# Altium footprint library PPs.PcbLib: 32 footprints (part 1 of 2)
Each footprint in its own frame and in the unit in brackets; x right, y up, seen from the top. Pads: shape width x height; smd on the part's side, far side on the other; paste and mask are expansions set on the pad; w line width, h text height; cw(c..) or ccw(c..) is an arc to the next point about the centre after c.
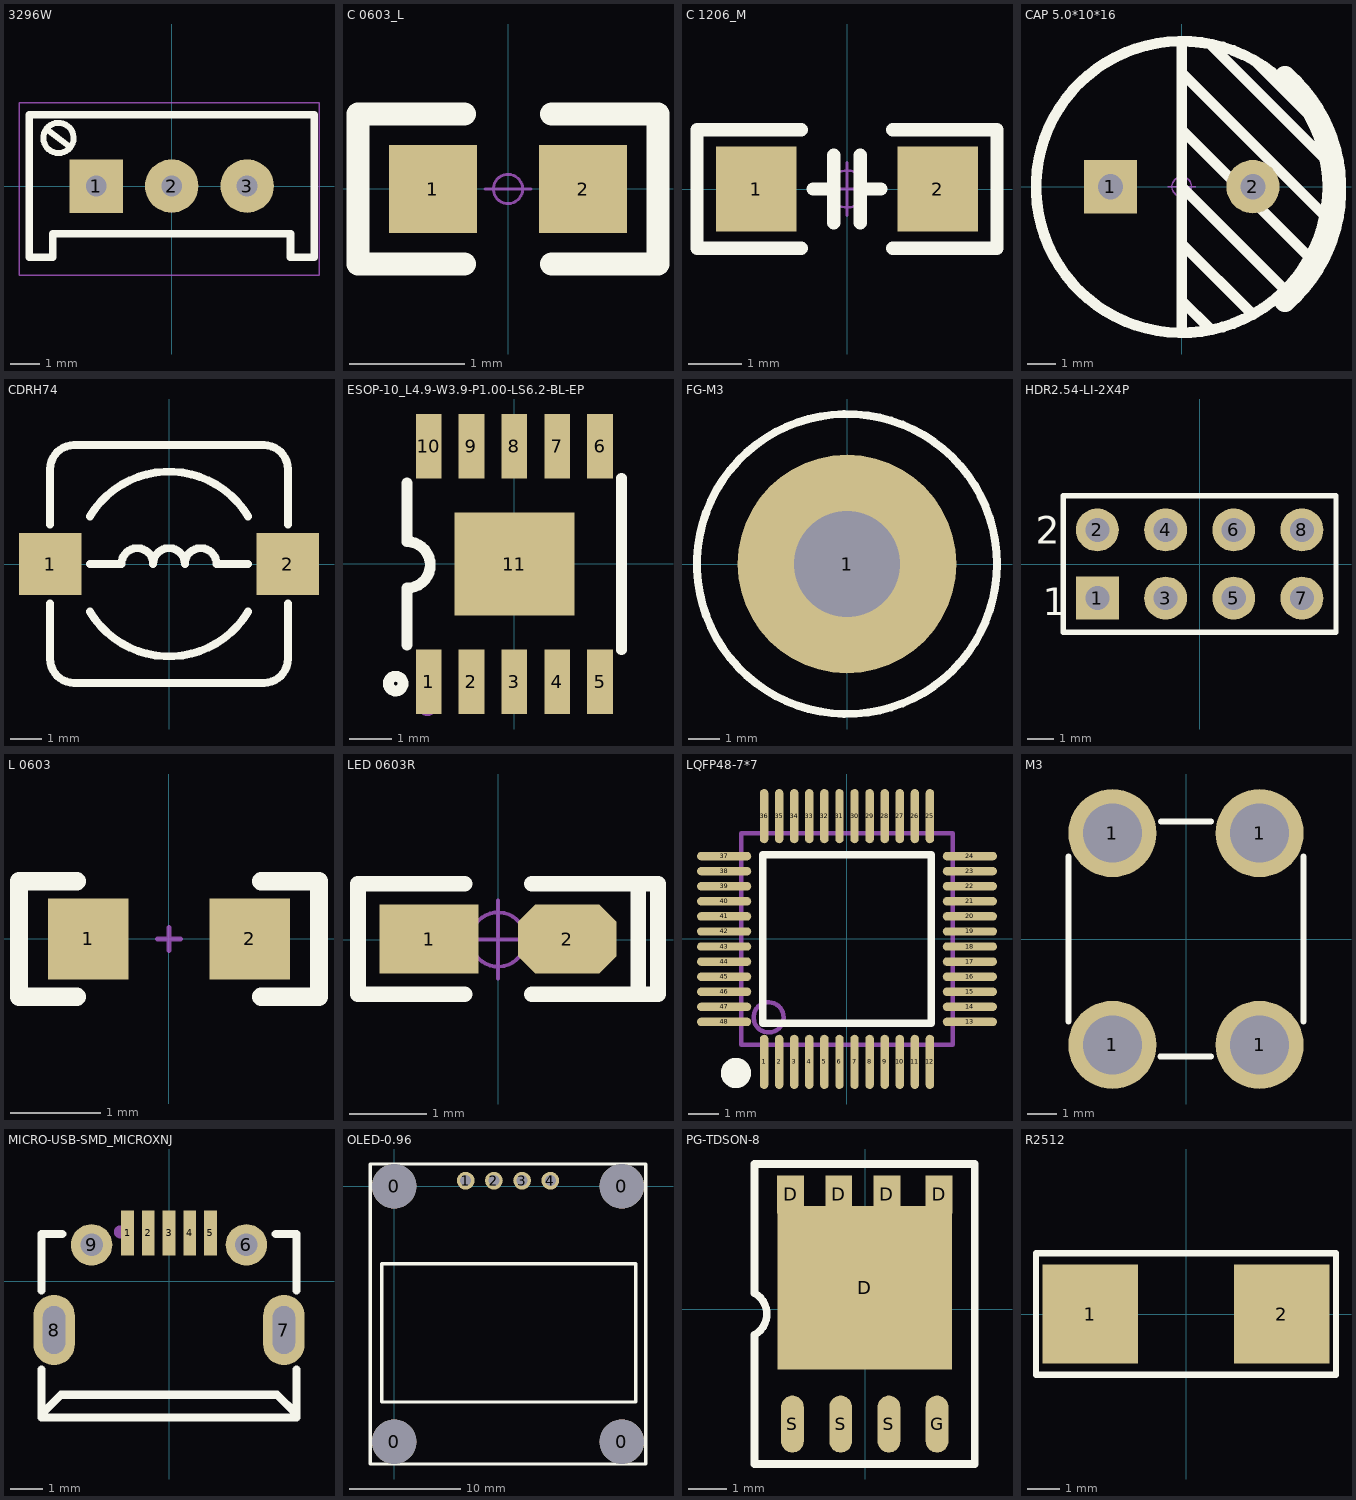
[diagram p0: the footprints below, top view; thin cyan lines are the x and y axes]

## 3296W [mm]
height 1.1
pads (3):
  rect 1.8x1.8 hole 0.7: 1(-2.54,0)
  round 1.8 hole 0.7: 2(0,0) 3(2.54,0)
Top Overlay:
  lines w0.2: -3.302,1.651 ccw(c-3.81,1.618) -3.301,1.608
  lines w0.203: -4.2,1.9 -3.464,1.348
  lines w0.254: -4.8,-2.4 -4.8,2.4 4.8,2.4 4.8,-2.4 4,-2.4 4,-1.6 -4,-1.6 -4,-2.4 -4.8,-2.4
Mechanical 15:
  lines w0.05: -5.14,-3 4.96,-3 4.96,2.8 -5.14,2.8 -5.14,-3
3D body "3296.STEP": height 11.52, standoff -3.48, extent -4.75,-2.4 4.75,2.4

## C 0603_L [mil]
height 43.31
pads (2):
  rect 30x30 smd: 1(-25.59,0) 2(25.59,0)
Top Overlay:
  lines w8: -15,-25.59 -51.18,-25.59 -51.18,25.59 -15,25.59 ; 15,-25.59 51.18,-25.59 51.18,25.59 15,25.59
Mechanical 15:
  circle w1: c0,0 r5
  lines w1: -7.87,0 7.87,0
3D body "C 0603.STEP": height 31.89, standoff -0.39, extent -31.5,-16.14 31.5,16.14

## C 1206_M [mil]
height 43.31
pads (2):
  rect 60x62.99 smd: 1(-67.5,0) 2(67.5,0)
Top Overlay:
  lines w10: -34,-44 -111.5,-44 -111.5,44 -34,44 ; -25,0 -10,0 ; -10,-25 -10,25 ; 10,-25 10,25 ; 10,0 25,0 ; 34,-44 111.5,-44 111.5,44 34,44
Mechanical 15:
  circle w1.97: c0,0 r13.78
  lines w1.97: -19.68,0 19.68,0 ; 0,-19.68 0,19.68
3D body "C 1206.STEP": height 47.64, standoff -0.39, extent -62.99,-31.89 62.99,31.89

## CAP 5.0*10*16 [mm]
height 1.1
pads (2):
  rect 1.9x1.9 hole 0.9: 1(-2.54,0)
  round 1.9 hole 0.9: 2(2.54,0)
Top Overlay:
  circle w0.381: c0.006,-0.013 r5.2
  lines w0.381: 0,0 3.556,-3.556 ; 0.006,-5.197 0.006,5.072 ; 0.006,-5.082 0.006,-5.075 ; 0.006,-4.064 0.006,-4.07 1.016,-5.08 ; 0.006,-3.054 0.006,-3.05 0.006,-3.043 ; 0.006,-2.032 0.006,-2.038 ; 0.006,1.01 0.006,1.016 ; 0.006,2.032 0.006,2.026 4.572,-2.54 ; 0.006,4.064 0.006,4.058 5.08,-1.016 ; 0.006,5.074 0.006,5.187 ; 1.016,5.08 5.08,1.016 ; 2.54,-4.572 0.006,-2.038 ; 2.667,4.445 4.572,2.54 ; 0.006,-2.038 0.006,-2.038
  lines w0.737: 3.683,-4.105 ccw(c0.153,-0.084) 3.683,3.937
Mechanical 15:
  circle w0.05: c0,0 r0.35
  lines w0.05: -0.5,0 0.5,0 ; 0,-0.5 0,0.5
3D body "CAP 5X10X16.STEP": height 16.04, standoff -3.37, extent -5,-5 5.01,5

## CDRH74 [mm] "7.3*7.3*4.5mm（长宽高）"
pads (2):
  rect 2x2 smd: 1(-3.81,0) 2(3.81,0)
Top Overlay:
  lines w0.254: -3.81,-1.27 -3.81,-3.048 ccw(c-3.048,-3.048) -3.048,-3.81 3.048,-3.81 ccw(c3.048,-3.048) 3.81,-3.048 3.81,-1.27 ; -3.81,1.27 -3.81,3.048 cw(c-3.048,3.048) -3.048,3.81 3.048,3.81 cw(c3.048,3.048) 3.81,3.048 3.81,1.27 ; -2.54,-1.524 ccw(c0,0) 2.54,-1.524 ; -2.54,0 -1.524,0 cw(c-1.016,0) -0.508,0 cw(c0,0) 0.508,0 cw(c1.016,0) 1.524,0 2.54,0 ; -2.54,1.524 cw(c0,0) 2.54,1.524
3D body "CDRH74.STEP": height 4.52, standoff 0.02, extent -3.65,-3.65 3.65,3.65

## ESOP-10_L4.9-W3.9-P1.00-LS6.2-BL-EP [mm]
pads (11):
  rect 0.6x1.5 smd: 1(-2,-2.75) 2(-1,-2.75) 3(0,-2.75) 4(1,-2.75) 5(2,-2.75) 6(2,2.75) 7(1,2.75) 8(0,2.75) 9(-1,2.75) 10(-2,2.75)
  rect 2.8x2.4 smd: 11(0,0)
Top Overlay:
  circle w0.254: c-2.77,-2.79 r0.171
  lines w0.254: -2.5,-1.887 -2.5,-0.564 ; -2.501,-0.563 ccw(c-2.504,-0.022) -2.5,0.52 -2.5,1.887 ; 2.5,-2 2.5,2
Mechanical 15:
  circle w0.2: c-2.03,-3.35 r0.1

## FG-M3 [mm]
height 32
pads (1):
  round 7 hole 3.4: 1(0,0)
Top Overlay:
  circle w0.254: c0,0 r4.801

## HDR2.54-LI-2X4P [mm]
height 1.1
pads (8):
  rect 1.6x1.6 hole 0.9: 1(-3.81,-1.27)
  round 1.6 hole 0.9: 2(-3.81,1.27) 3(-1.27,-1.27) 4(-1.27,1.27) 5(1.27,-1.27) 6(1.27,1.27) 7(3.81,-1.27) 8(3.81,1.27)
Top Overlay:
  lines w0.2: -2.328,-2.54 5.08,-2.54 5.08,2.54 -5.08,2.54 -5.08,-2.54 2.54,-2.54
  text "1" at -5.842,-1.905 h1.02
  text "2" at -6.096,0.762 h1.02
3D body "HDR2.54-1x2P.STEP": height 8.5, standoff -3, extent -2.54,-2.54 0,2.54
3D body "HDR2.54-1x2P.STEP": height 8.5, standoff -3, extent -5.08,-2.54 -2.54,2.54
3D body "HDR2.54-1x2P.STEP": height 8.5, standoff -3, extent 2.54,-2.54 5.08,2.54
3D body "HDR2.54-1x2P.STEP": height 8.5, standoff -3, extent 0,-2.54 2.54,2.54

## L 0603 [mil]
height 43.31
pads (2):
  rect 35x35 smd: 1(-35,0) 2(35,0)
Top Overlay:
  lines w8: -40,-25 -65,-25 -65,25 -40,25 ; 40,-25 65,-25 65,25 40,25
Mechanical 15:
  lines w2: -5,0 5,0 ; 0,-5 0,0 0,5
3D body "0603.STEP": height 31.5, standoff -0.11, extent -31.5,-15.75 31.5,15.75

## LED 0603R [mil]
pads (2):
  rect 50x35 smd: 1(-35,0.26)
  oct 50x35 smd: 2(35,0.26)
Top Overlay:
  lines w8: -17,-27.74 -71,-27.74 -71,-25.74 -71,28.26 -70,28.26 -17,28.26 ; 17,-27.74 70,-27.74 ; 17,28.26 71,28.26 81,28.26 81,-27.74 71,-27.74 71,26.26
Mechanical 15:
  circle w1.97: c0,0 r13.78
  lines w1.97: -19.68,0 19.68,0 ; 0,-19.68 0,19.68
3D body "LED 0603-R.STEP": height 18.36, standoff -0.16, extent -31.5,-15.79 31.5,15.79
3D body "LED 0603玻?": height 0, standoff 0, extent 0,0 0,0

## LQFP48-7*7 [mm] "7x7"
height 1.6
pads (48):
  oval 0.279x1.8 smd: 1(-2.75,-4.075) 2(-2.25,-4.075) 3(-1.75,-4.075) 4(-1.25,-4.075) 5(-0.75,-4.075) 6(-0.25,-4.075) 7(0.25,-4.075) 8(0.75,-4.075) 9(1.25,-4.075) 10(1.75,-4.075) 11(2.25,-4.075) 12(2.75,-4.075) 25(2.75,4.075) 26(2.25,4.075) 27(1.75,4.075) 28(1.25,4.075) 29(0.75,4.075) 30(0.25,4.075) 31(-0.25,4.075) 32(-0.75,4.075) 33(-1.25,4.075) 34(-1.75,4.075) 35(-2.25,4.075) 36(-2.75,4.075)
  oval 1.8x0.279 smd: 13(4.075,-2.75) 14(4.075,-2.25) 15(4.075,-1.75) 16(4.075,-1.25) 17(4.075,-0.75) 18(4.075,-0.25) 19(4.075,0.25) 20(4.075,0.75) 21(4.075,1.25) 22(4.075,1.75) 23(4.075,2.25) 24(4.075,2.75) 37(-4.075,2.75) 38(-4.075,2.25) 39(-4.075,1.75) 40(-4.075,1.25) 41(-4.075,0.75) 42(-4.075,0.25) 43(-4.075,-0.25) 44(-4.075,-0.75) 45(-4.075,-1.25) 46(-4.075,-1.75) 47(-4.075,-2.25) 48(-4.075,-2.75)
Top Overlay:
  circle w0.508: c-3.683,-4.445 r0.25
  lines w0.254: -2.794,-2.794 2.794,-2.794 2.794,2.794 -2.794,2.794 -2.794,-2.794
Mechanical 13:
  circle w0.15: c-2.6,-2.6 r0.5
  lines w0.15: -3.5,-3.5 -3.5,3.5 3.5,3.5 3.5,-3.5 -3.5,-3.5
3D body "LQFP48-7x7.STEP": height 1.45, standoff 0, extent -4.503,-4.503 4.503,4.503

## M3 [mm]
height 32
pads (4):
  round 3 hole 2: 1(-2.5,-3.6) 1(-2.5,3.6) 1(2.5,-3.6) 1(2.5,3.6)
Top Overlay:
  lines w0.2: -4,-2.8 -4,2.8 ; -0.875,-4 0.85,-4 ; -0.85,4 0.85,4 ; 4,-2.8 4,2.8

## MICRO-USB-SMD_MICROXNJ [mm]
pads (9):
  rect 0.4x1.4 smd: 1(-1.3,1.521) 2(-0.65,1.521) 3(0,1.521) 4(0.65,1.521) 5(1.3,1.521)
  round 1.3 hole 0.7: 6(2.425,1.149) 9(-2.425,1.149)
  oval 1.3x2.2 hole 0.7 slot 1.5 at 90 deg: 7(3.6,-1.521) 8(-3.6,-1.521)
Top Overlay:
  lines w0.254: -4,-4.259 4,-4.259 4,-2.756 ; -4,-4.239 -4,-2.756 ; -4,-0.287 -4,1.491 -3.344,1.491 ; -3.97,-4.239 -3.97,-4.139 -3.38,-3.549 3.39,-3.549 3.98,-4.139 3.98,-4.259 ; 3.344,1.491 4,1.491 4,-0.287
Top Paste:
  circle w0.65: c-2.425,1.149 r0.325
  circle w0.65: c2.425,1.149 r0.325
  region: 2.95,-1.071 2.95,-0.986 2.994,-0.82 3.08,-0.672 3.201,-0.551 3.349,-0.466 3.514,-0.421 3.686,-0.421 3.851,-0.466 3.999,-0.551 4.12,-0.672 4.206,-0.82 4.25,-0.986 4.25,-1.071 4.25,-1.971 4.25,-2.057 4.206,-2.222 4.12,-2.37 3.999,-2.491 3.851,-2.577 3.686,-2.621 3.514,-2.621 3.349,-2.577 3.201,-2.491 3.08,-2.37 2.994,-2.222 2.95,-2.057 2.95,-1.971
  region: -4.25,-1.071 -4.25,-0.986 -4.206,-0.82 -4.12,-0.672 -3.999,-0.551 -3.851,-0.466 -3.685,-0.421 -3.514,-0.421 -3.349,-0.466 -3.201,-0.551 -3.08,-0.672 -2.994,-0.82 -2.95,-0.986 -2.95,-1.071 -2.95,-1.971 -2.95,-2.057 -2.994,-2.222 -3.08,-2.37 -3.201,-2.491 -3.349,-2.577 -3.514,-2.621 -3.685,-2.621 -3.851,-2.577 -3.999,-2.491 -4.12,-2.37 -4.206,-2.222 -4.25,-2.057 -4.25,-1.971
  region: 1.5,2.221 1.1,2.221 1.1,1.021 1.1,0.821 1.5,0.821 1.5,1.058
  region: 0.85,2.221 0.45,2.221 0.45,1.021 0.45,0.821 0.85,0.821 0.85,1.058
  region: 0.2,2.221 -0.2,2.221 -0.2,1.021 -0.2,0.821 0.2,0.821 0.2,1.058
  region: -0.45,2.221 -0.85,2.221 -0.85,1.021 -0.85,0.821 -0.45,0.821 -0.45,1.058
  region: -1.1,2.221 -1.5,2.221 -1.5,1.021 -1.5,0.821 -1.1,0.821 -1.1,1.058
Mechanical 15:
  circle w0.2: c-1.53,1.554 r0.1

## OLED-0.96 [mm]
height 1.1
pads (8):
  round 4 hole 4: 0(0,-23) 0(0,0) 0(20.5,-23) 0(20.5,0)
  round 1.6 hole 1: 1(6.44,0.5) 2(8.98,0.5) 3(11.52,0.5) 4(14.06,0.5)
Top Overlay:
  lines w0.3: -2.15,-25 -2.15,2 22.65,2 22.65,-25 -2.15,-25 ; -1.114,-19.427 -1.114,-6.981 21.746,-6.981 21.746,-19.427 20.984,-19.427 -1.114,-19.427

## PG-TDSON-8 [mm]
height 1.1
pads (9):
  rect 0.7x1 smd: D(-1.966,3.022) D(-0.696,3.022) D(0.574,3.022) D(1.944,3.022)
  rect 4.6x4.3 smd: D(-0.016,0.562)
  oval 0.6x1.5 smd: G(1.894,-3.028) S(-1.916,-3.028) S(-0.646,-3.028) S(0.624,-3.028)
Top Overlay:
  lines w0.2: -2.916,-4.078 2.884,-4.078 2.884,3.822 -2.916,3.822 -2.916,0.422 cw(c-3.216,-0.128) -2.916,-0.678 -2.916,-4.078

## R2512 [mm]
height 1.1
pads (2):
  rect 3x3.1 smd: 1(-3,0) 2(3,0)
Top Overlay:
  lines w0.2: -4.699,-1.9 4.699,-1.9 4.699,1.9 -4.699,1.9 -4.699,-1.9